# EAGLE library part AT572D940HF (library atmega-atxmega)
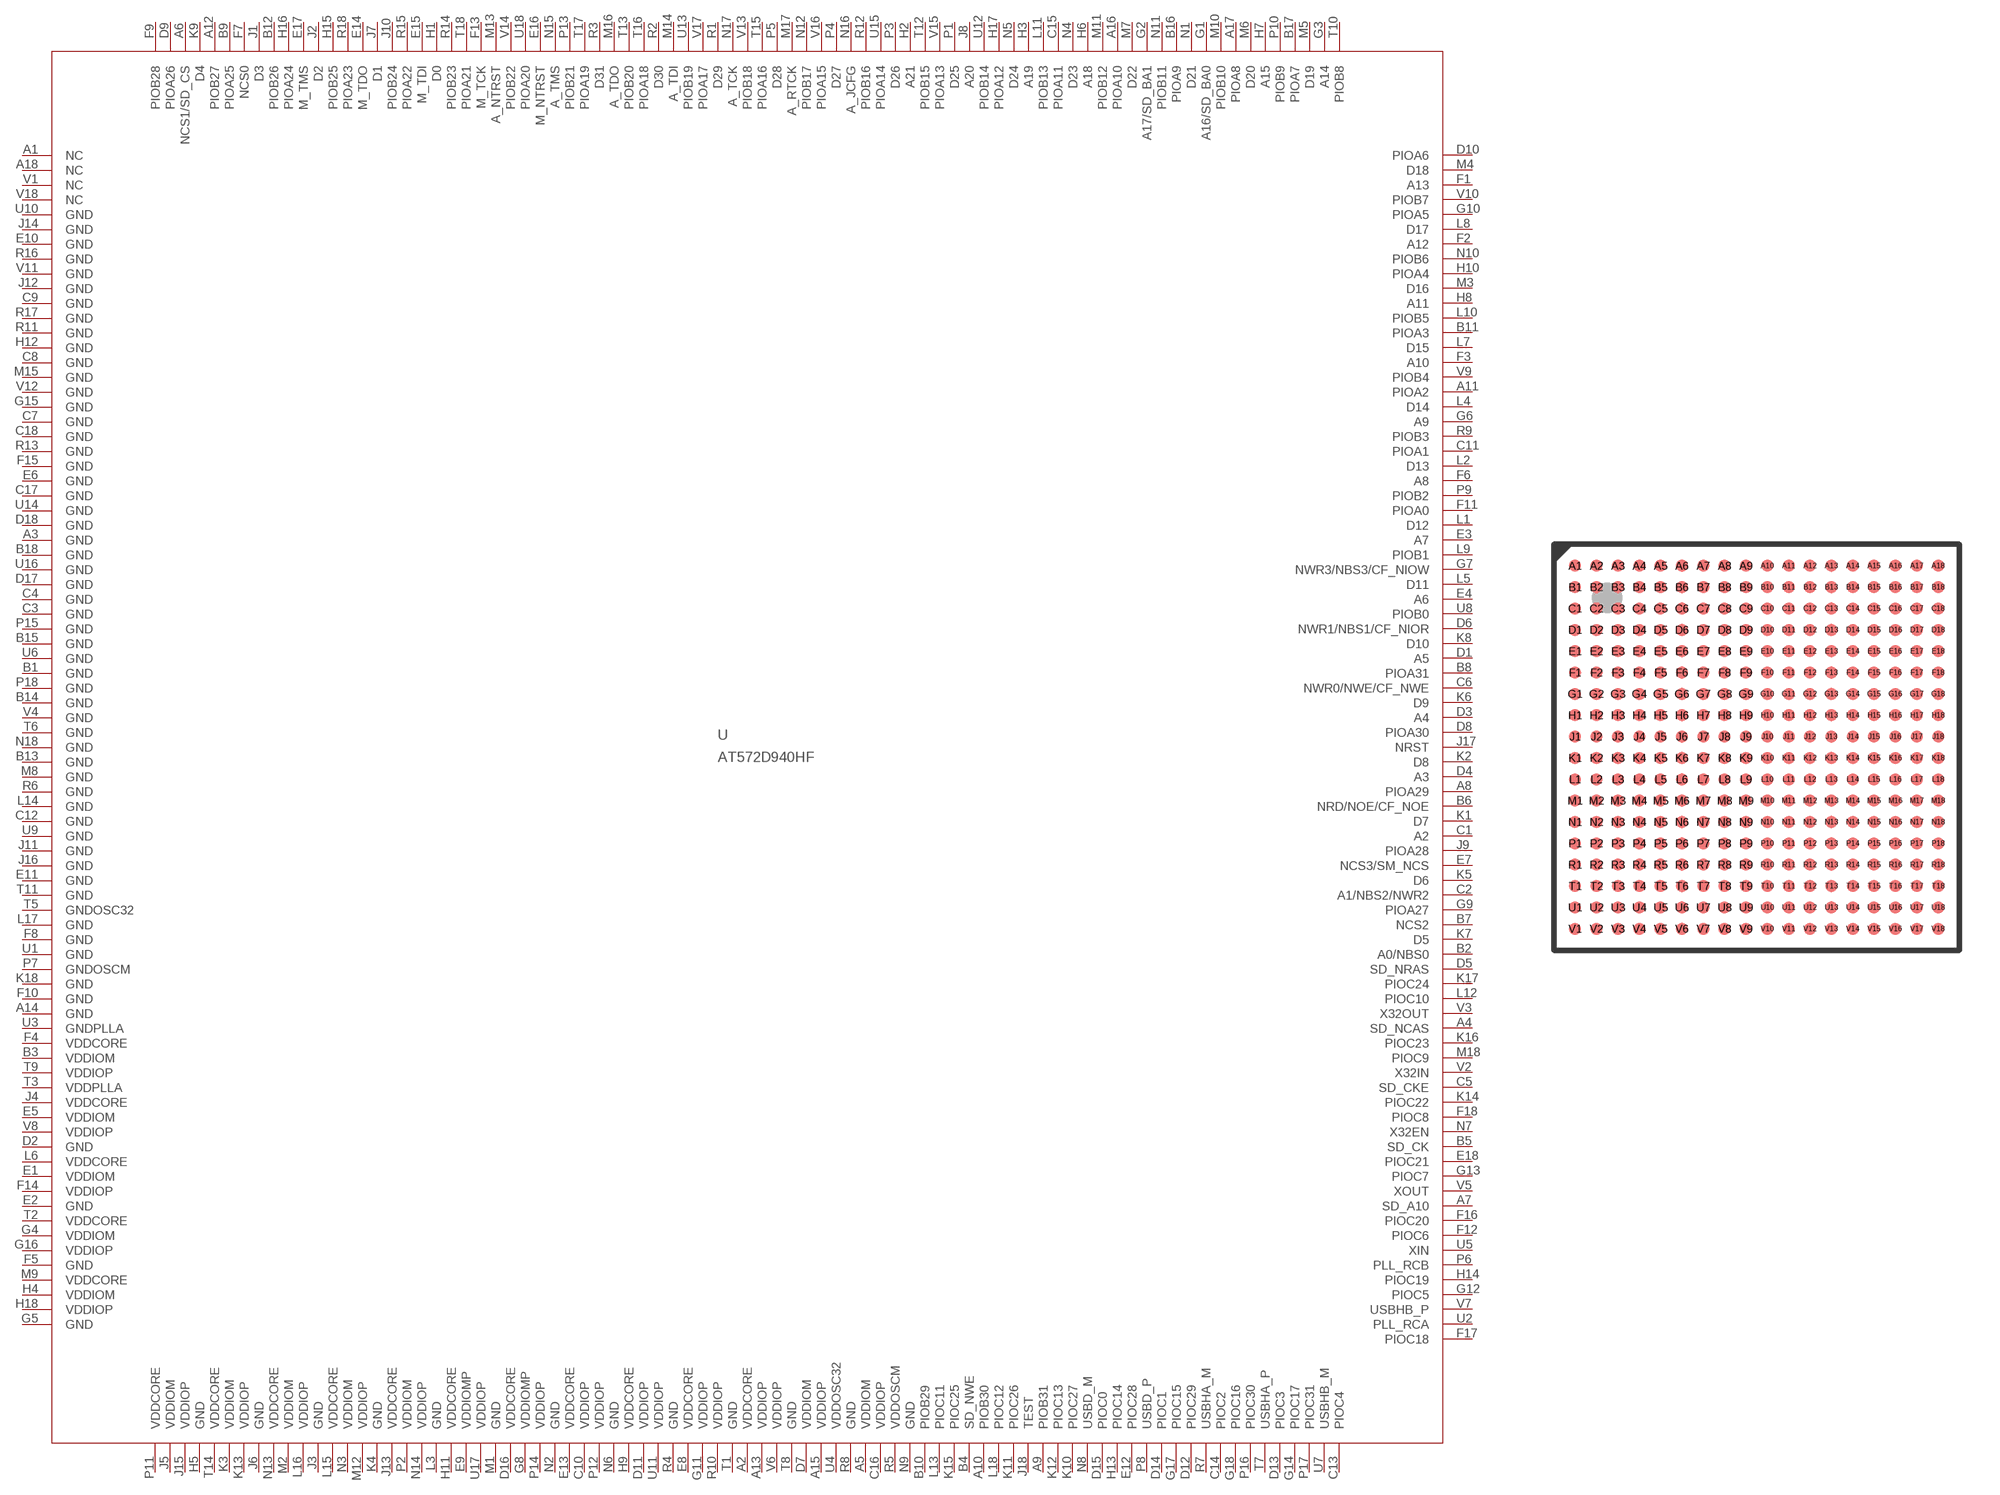
[diagram p148: symbol with the pads of CABGA324; footprint CABGA324]

Designator prefix U

## AT572D940HF  [CABGA324]
A1  NC  pas
A2  VDDCORE  pas
A3  GND  pas
A4  SD_NCAS  pas
A5  VDDIOM  pas
A6  NCS1/SD_CS  pas
A7  SD_A10  pas
A8  PIOA29  pas
A9  PIOB31  pas
A10  PIOB30  pas
A11  PIOA2  pas
A12  PIOB27  pas
A13  VDDIOP  pas
A14  GND  pas
A15  VDDIOP  pas
A16  PIOA10  pas
A17  PIOA8  pas
A18  NC  pas
B1  GND  pas
B2  A0/NBS0  pas
B3  VDDIOM  pas
B4  SD_NWE  pas
B5  SD_CK  pas
B6  NRD/NOE/CF_NOE  pas
B7  NCS2  pas
B8  PIOA31  pas
B9  PIOA25  pas
B10  PIOB29  pas
B11  PIOA3  pas
B12  PIOB26  pas
B13  GND  pas
B14  GND  pas
B15  GND  pas
B16  PIOA9  pas
B17  PIOA7  pas
B18  GND  pas
C1  A2  pas
C2  A1/NBS2/NWR2  pas
C3  GND  pas
C4  GND  pas
C5  SD_CKE  pas
C6  NWR0/NWE/CF_NWE  pas
C7  GND  pas
C8  GND  pas
C9  GND  pas
C10  VDDIOP  pas
C11  PIOA1  pas
C12  GND  pas
C13  PIOC4  pas
C14  PIOC2  pas
C15  PIOA11  pas
C16  VDDIOP  pas
C17  GND  pas
C18  GND  pas
D1  A5  pas
D2  GND  pas
D3  A4  pas
D4  A3  pas
D5  SD_NRAS  pas
D6  NWR1/NBS1/CF_NIOR  pas
D7  VDDIOM  pas
D8  PIOA30  pas
D9  PIOA26  pas
D10  PIOA6  pas
D11  VDDIOP  pas
D12  PIOC29  pas
D13  PIOC3  pas
D14  PIOC1  pas
D15  PIOC0  pas
D16  VDDCORE  pas
D17  GND  pas
D18  GND  pas
E1  VDDIOM  pas
E2  GND  pas
E3  A7  pas
E4  A6  pas
E5  VDDIOM  pas
E6  GND  pas
E7  NCS3/SM_NCS  pas
E8  VDDCORE  pas
E9  VDDIOMP  pas
E10  GND  pas
E11  GND  pas
E12  PIOC28  pas
E13  VDDCORE  pas
E14  M_TDO  pas
E15  M_TDI  pas
E16  M_NTRST  pas
E17  M_TMS  pas
E18  PIOC21  pas
F1  A13  pas
F2  A12  pas
F3  A10  pas
F4  VDDCORE  pas
F5  GND  pas
F6  A8  pas
F7  NCS0  pas
F8  GND  pas
F9  PIOB28  pas
F10  GND  pas
F11  PIOA0  pas
F12  PIOC6  pas
F13  M_TCK  pas
F14  VDDIOP  pas
F15  GND  pas
F16  PIOC20  pas
F17  PIOC18  pas
F18  PIOC8  pas
G1  A16/SD_BA0  pas
G2  A17/SD_BA1  pas
G3  A14  pas
G4  VDDIOM  pas
G5  GND  pas
G6  A9  pas
G7  NWR3/NBS3/CF_NIOW  pas
G8  VDDIOMP  pas
G9  PIOA27  pas
G10  PIOA5  pas
G11  VDDIOP  pas
G12  PIOC5  pas
G13  PIOC7  pas
G14  PIOC17  pas
G15  GND  pas
G16  VDDIOP  pas
G17  PIOC15  pas
G18  PIOC16  pas
H1  D0  pas
H2  A21  pas
H3  A19  pas
H4  VDDIOM  pas
H5  GND  pas
H6  A18  pas
H7  A15  pas
H8  A11  pas
H9  VDDCORE  pas
H10  PIOA4  pas
H11  VDDCORE  pas
H12  GND  pas
H13  PIOC14  pas
H14  PIOC19  pas
H15  PIOB25  pas
H16  PIOA24  pas
H17  PIOA12  pas
H18  VDDIOP  pas
J1  D3  pas
J2  D2  pas
J3  GND  pas
J4  VDDCORE  pas
J5  VDDIOM  pas
J6  GND  pas
J7  D1  pas
J8  A20  pas
J9  PIOA28  pas
J10  PIOB24  pas
J11  GND  pas
J12  GND  pas
J13  VDDCORE  pas
J14  GND  pas
J15  VDDIOP  pas
J16  GND  pas
J17  NRST  pas
J18  TEST  pas
K1  D7  pas
K2  D8  pas
K3  VDDIOM  pas
K4  GND  pas
K5  D6  pas
K6  D9  pas
K7  D5  pas
K8  D10  pas
K9  D4  pas
K10  PIOC27  pas
K11  PIOC26  pas
K12  PIOC13  pas
K13  VDDIOP  pas
K14  PIOC22  pas
K15  PIOC25  pas
K16  PIOC23  pas
K17  PIOC24  pas
K18  GND  pas
L1  D12  pas
L2  D13  pas
L3  GND  pas
L4  D14  pas
L5  D11  pas
L6  VDDCORE  pas
L7  D15  pas
L8  D17  pas
L9  PIOB1  pas
L10  PIOB5  pas
L11  PIOB13  pas
L12  PIOC10  pas
L13  PIOC11  pas
L14  GND  pas
L15  VDDCORE  pas
L16  VDDIOP  pas
L17  GND  pas
L18  PIOC12  pas
M1  GND  pas
M2  VDDIOM  pas
M3  D16  pas
M4  D18  pas
M5  D19  pas
M6  D20  pas
M7  D22  pas
M8  GND  pas
M9  VDDCORE  pas
M10  PIOB10  pas
M11  PIOB12  pas
M12  VDDIOP  pas
M13  A_NTRST  pas
M14  A_TDI  pas
M15  GND  pas
M16  A_TDO  pas
M17  A_RTCK  pas
M18  PIOC9  pas
N1  D21  pas
N2  GND  pas
N3  VDDIOM  pas
N4  D23  pas
N5  D24  pas
N6  GND  pas
N7  X32EN  pas
N8  USBD_M  pas
N9  GND  pas
N10  PIOB6  pas
N11  PIOB11  pas
N12  PIOB17  pas
N13  VDDCORE  pas
N14  VDDIOP  pas
N15  A_TMS  pas
N16  A_JCFG  pas
N17  A_TCK  pas
N18  GND  pas
P1  D25  pas
P2  VDDIOM  pas
P3  D26  pas
P4  D27  pas
P5  D28  pas
P6  PLL_RCB  pas
P7  GNDOSCM  pas
P8  USBD_P  pas
P9  PIOB2  pas
P10  PIOB9  pas
P11  VDDCORE  pas
P12  VDDIOP  pas
P13  PIOB21  pas
P14  VDDIOP  pas
P15  GND  pas
P16  PIOC30  pas
P17  PIOC31  pas
P18  GND  pas
R1  D29  pas
R2  D30  pas
R3  D31  pas
R4  GND  pas
R5  VDDOSCM  pas
R6  GND  pas
R7  USBHA_M  pas
R8  GND  pas
R9  PIOB3  pas
R10  VDDIOP  pas
R11  GND  pas
R12  PIOB16  pas
R13  GND  pas
R14  PIOB23  pas
R15  PIOA22  pas
R16  GND  pas
R17  GND  pas
R18  PIOA23  pas
T1  GND  pas
T2  VDDCORE  pas
T3  VDDPLLA  pas
T5  GNDOSC32  pas
T6  GND  pas
T7  USBHA_P  pas
T8  GND  pas
T9  VDDIOP  pas
T10  PIOB8  pas
T11  GND  pas
T12  PIOB15  pas
T13  PIOB20  pas
T14  VDDCORE  pas
T15  PIOA16  pas
T16  PIOA18  pas
T17  PIOA19  pas
T18  PIOA21  pas
U1  GND  pas
U2  PLL_RCA  pas
U3  GNDPLLA  pas
U4  VDDOSC32  pas
U5  XIN  pas
U6  GND  pas
U7  USBHB_M  pas
U8  PIOB0  pas
U9  GND  pas
U10  GND  pas
U11  VDDIOP  pas
U12  PIOB14  pas
U13  PIOB19  pas
U14  GND  pas
U15  PIOA14  pas
U16  GND  pas
U17  VDDIOP  pas
U18  PIOA20  pas
V1  NC  pas
V2  X32IN  pas
V3  X32OUT  pas
V4  GND  pas
V5  XOUT  pas
V6  VDDIOP  pas
V7  USBHB_P  pas
V8  VDDIOP  pas
V9  PIOB4  pas
V10  PIOB7  pas
V11  GND  pas
V12  GND  pas
V13  PIOB18  pas
V14  PIOB22  pas
V15  PIOA13  pas
V16  PIOA15  pas
V17  PIOA17  pas
V18  NC  pas

## Footprint CABGA324 (pad centres in mm)
CABGA-324 pitch 0.80, outline 15x15 mm
smd 0.45 x 0.45: A1 -6.8,6.8; A2 -6,6.8; A3 -5.2,6.8; A4 -4.4,6.8; A5 -3.6,6.8; A6 -2.8,6.8; A7 -2,6.8; A8 -1.2,6.8; A9 -0.4,6.8; A10 0.4,6.8; A11 1.2,6.8; A12 2,6.8; A13 2.8,6.8; A14 3.6,6.8; A15 4.4,6.8; A16 5.2,6.8; A17 6,6.8; A18 6.8,6.8; B1 -6.8,6; B2 -6,6; B3 -5.2,6; B4 -4.4,6; B5 -3.6,6; B6 -2.8,6; B7 -2,6; B8 -1.2,6; B9 -0.4,6; B10 0.4,6; B11 1.2,6; B12 2,6; B13 2.8,6; B14 3.6,6; B15 4.4,6; B16 5.2,6; B17 6,6; B18 6.8,6; C1 -6.8,5.2; C2 -6,5.2; C3 -5.2,5.2; C4 -4.4,5.2; C5 -3.6,5.2; C6 -2.8,5.2; C7 -2,5.2; C8 -1.2,5.2; C9 -0.4,5.2; C10 0.4,5.2; C11 1.2,5.2; C12 2,5.2; C13 2.8,5.2; C14 3.6,5.2; C15 4.4,5.2; C16 5.2,5.2; C17 6,5.2; C18 6.8,5.2; D1 -6.8,4.4; D2 -6,4.4; D3 -5.2,4.4; D4 -4.4,4.4; D5 -3.6,4.4; D6 -2.8,4.4; D7 -2,4.4; D8 -1.2,4.4; D9 -0.4,4.4; D10 0.4,4.4; D11 1.2,4.4; D12 2,4.4; D13 2.8,4.4; D14 3.6,4.4; D15 4.4,4.4; D16 5.2,4.4; D17 6,4.4; D18 6.8,4.4; E1 -6.8,3.6; E2 -6,3.6; E3 -5.2,3.6; E4 -4.4,3.6; E5 -3.6,3.6; E6 -2.8,3.6; E7 -2,3.6; E8 -1.2,3.6; E9 -0.4,3.6; E10 0.4,3.6; E11 1.2,3.6; E12 2,3.6; E13 2.8,3.6; E14 3.6,3.6; E15 4.4,3.6; E16 5.2,3.6; E17 6,3.6; E18 6.8,3.6; F1 -6.8,2.8; F2 -6,2.8; F3 -5.2,2.8; F4 -4.4,2.8; F5 -3.6,2.8; F6 -2.8,2.8; F7 -2,2.8; F8 -1.2,2.8; F9 -0.4,2.8; F10 0.4,2.8; F11 1.2,2.8; F12 2,2.8; F13 2.8,2.8; F14 3.6,2.8; F15 4.4,2.8; F16 5.2,2.8; F17 6,2.8; F18 6.8,2.8; G1 -6.8,2; G2 -6,2; G3 -5.2,2; G4 -4.4,2; G5 -3.6,2; G6 -2.8,2; G7 -2,2; G8 -1.2,2; G9 -0.4,2; G10 0.4,2; G11 1.2,2; G12 2,2; G13 2.8,2; G14 3.6,2; G15 4.4,2; G16 5.2,2; G17 6,2; G18 6.8,2; H1 -6.8,1.2; H2 -6,1.2; H3 -5.2,1.2; H4 -4.4,1.2; H5 -3.6,1.2; H6 -2.8,1.2; H7 -2,1.2; H8 -1.2,1.2; H9 -0.4,1.2; H10 0.4,1.2; H11 1.2,1.2; H12 2,1.2; H13 2.8,1.2; H14 3.6,1.2; H15 4.4,1.2; H16 5.2,1.2; H17 6,1.2; H18 6.8,1.2; J1 -6.8,0.4; J2 -6,0.4; J3 -5.2,0.4; J4 -4.4,0.4; J5 -3.6,0.4; J6 -2.8,0.4; J7 -2,0.4; J8 -1.2,0.4; J9 -0.4,0.4; J10 0.4,0.4; J11 1.2,0.4; J12 2,0.4; J13 2.8,0.4; J14 3.6,0.4; J15 4.4,0.4; J16 5.2,0.4; J17 6,0.4; J18 6.8,0.4; K1 -6.8,-0.4; K2 -6,-0.4; K3 -5.2,-0.4; K4 -4.4,-0.4; K5 -3.6,-0.4; K6 -2.8,-0.4; K7 -2,-0.4; K8 -1.2,-0.4; K9 -0.4,-0.4; K10 0.4,-0.4; K11 1.2,-0.4; K12 2,-0.4; K13 2.8,-0.4; K14 3.6,-0.4; K15 4.4,-0.4; K16 5.2,-0.4; K17 6,-0.4; K18 6.8,-0.4; L1 -6.8,-1.2; L2 -6,-1.2; L3 -5.2,-1.2; L4 -4.4,-1.2; L5 -3.6,-1.2; L6 -2.8,-1.2; L7 -2,-1.2; L8 -1.2,-1.2; L9 -0.4,-1.2; L10 0.4,-1.2; L11 1.2,-1.2; L12 2,-1.2; L13 2.8,-1.2; L14 3.6,-1.2; L15 4.4,-1.2; L16 5.2,-1.2; L17 6,-1.2; L18 6.8,-1.2; M1 -6.8,-2; M2 -6,-2; M3 -5.2,-2; M4 -4.4,-2; M5 -3.6,-2; M6 -2.8,-2; M7 -2,-2; M8 -1.2,-2; M9 -0.4,-2; M10 0.4,-2; M11 1.2,-2; M12 2,-2; M13 2.8,-2; M14 3.6,-2; M15 4.4,-2; M16 5.2,-2; M17 6,-2; M18 6.8,-2; N1 -6.8,-2.8; N2 -6,-2.8; N3 -5.2,-2.8; N4 -4.4,-2.8; N5 -3.6,-2.8; N6 -2.8,-2.8; N7 -2,-2.8; N8 -1.2,-2.8; N9 -0.4,-2.8; N10 0.4,-2.8; N11 1.2,-2.8; N12 2,-2.8; N13 2.8,-2.8; N14 3.6,-2.8; N15 4.4,-2.8; N16 5.2,-2.8; N17 6,-2.8; N18 6.8,-2.8; P1 -6.8,-3.6; P2 -6,-3.6; P3 -5.2,-3.6; P4 -4.4,-3.6; P5 -3.6,-3.6; P6 -2.8,-3.6; P7 -2,-3.6; P8 -1.2,-3.6; P9 -0.4,-3.6; P10 0.4,-3.6; P11 1.2,-3.6; P12 2,-3.6; P13 2.8,-3.6; P14 3.6,-3.6; P15 4.4,-3.6; P16 5.2,-3.6; P17 6,-3.6; P18 6.8,-3.6; R1 -6.8,-4.4; R2 -6,-4.4; R3 -5.2,-4.4; R4 -4.4,-4.4; R5 -3.6,-4.4; R6 -2.8,-4.4; R7 -2,-4.4; R8 -1.2,-4.4; R9 -0.4,-4.4; R10 0.4,-4.4; R11 1.2,-4.4; R12 2,-4.4; R13 2.8,-4.4; R14 3.6,-4.4; R15 4.4,-4.4; R16 5.2,-4.4; R17 6,-4.4; R18 6.8,-4.4; T1 -6.8,-5.2; T2 -6,-5.2; T3 -5.2,-5.2; T4 -4.4,-5.2; T5 -3.6,-5.2; T6 -2.8,-5.2; T7 -2,-5.2; T8 -1.2,-5.2; T9 -0.4,-5.2; T10 0.4,-5.2; T11 1.2,-5.2; T12 2,-5.2; T13 2.8,-5.2; T14 3.6,-5.2; T15 4.4,-5.2; T16 5.2,-5.2; T17 6,-5.2; T18 6.8,-5.2; U1 -6.8,-6; U2 -6,-6; U3 -5.2,-6; U4 -4.4,-6; U5 -3.6,-6; U6 -2.8,-6; U7 -2,-6; U8 -1.2,-6; U9 -0.4,-6; U10 0.4,-6; U11 1.2,-6; U12 2,-6; U13 2.8,-6; U14 3.6,-6; U15 4.4,-6; U16 5.2,-6; U17 6,-6; U18 6.8,-6; V1 -6.8,-6.8; V2 -6,-6.8; V3 -5.2,-6.8; V4 -4.4,-6.8; V5 -3.6,-6.8; V6 -2.8,-6.8; V7 -2,-6.8; V8 -1.2,-6.8; V9 -0.4,-6.8; V10 0.4,-6.8; V11 1.2,-6.8; V12 2,-6.8; V13 2.8,-6.8; V14 3.6,-6.8; V15 4.4,-6.8; V16 5.2,-6.8; V17 6,-6.8; V18 6.8,-6.8